# Altium footprint library CN_SOCKET_TOP_ENTRY_7P.PcbLib: 2 footprints
Each footprint in its own frame and in the unit in brackets; x right, y up, seen from the top. Pads: shape width x height; smd on the part's side, far side on the other; paste and mask are expansions set on the pad; w line width, h text height; cw(c..) or ccw(c..) is an arc to the next point about the centre after c.
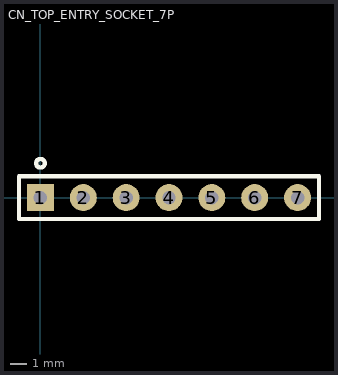
[diagram p0: the footprints below, top view; thin cyan lines are the x and y axes]

## CN_TOP_ENTRY_SOCKET_7P [mm] "Top entry socket 7pins"
pads (7):
  rect 1.6x1.6 hole 0.8: 1(0,0)
  round 1.6 hole 0.8: 2(2.54,0) 3(5.08,0) 4(7.62,0) 5(10.16,0) 6(12.7,0) 7(15.24,0)
Top Overlay:
  circle w0.254: c0,2.032 r0.254
  lines w0.254: -1.27,-1.27 -1.27,1.27 16.51,1.27 16.51,-1.27 -1.27,-1.27
3D body: height 7, standoff -3, extent -1.27,-1.27 16.51,1.27

## CN_TOP_ENTRY_SOCKET_7P_NOHOLES [mm]
3D body: height 7, standoff -3, extent -1.27,-1.27 16.51,1.27